# EAGLE library part MAX5387LAUD+ (library Cosmic Pi Main Board V2.4 OHWR)
Digital Potentiometer
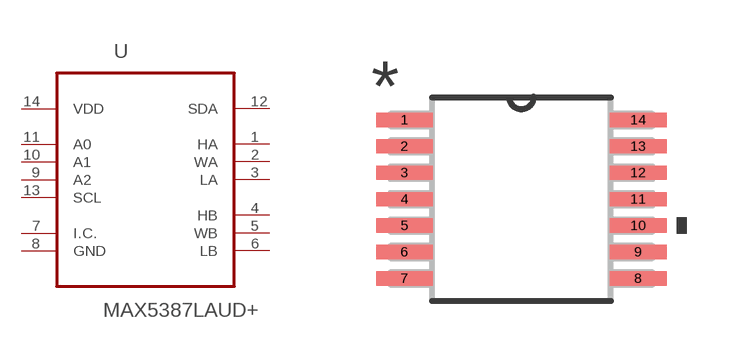
[diagram p4: symbol with the pads of TSSOP-14; footprint TSSOP-14]

Designator prefix U

## MAX5387LAUD+  [TSSOP-14]
1  HA  pas
2  WA  pas
3  LA  pas
4  HB  pas
5  WB  pas
6  LB  pas
7  I.C.  pas
8  GND  pas
9  A2  in
10  A1  in
11  A0  in
12  SDA
13  SCL  in
14  VDD  pwr

## Footprint TSSOP-14 (pad centres in mm)
smd 1.422 x 0.356: 1 -2.921,1.981; 2 -2.921,1.321; 3 -2.921,0.66; 4 -2.921,0; 5 -2.921,-0.66; 6 -2.921,-1.321; 7 -2.921,-1.981; 8 2.921,-1.981; 9 2.921,-1.321; 10 2.921,-0.66; 11 2.921,0; 12 2.921,0.66; 13 2.921,1.321; 14 2.921,1.981